# EAGLE library part MX25UW25645GXDI00-TR (library MX25UW25645GXDI00-TR)
NOR Flash Serial NOR 1.8V 256Mbit x8 I/O BGA-24 RWW Source: Datasheet <https://www.mouser.pl/pdfDocs/MX25UM25345G,18V,256Mb,v10.pdf>
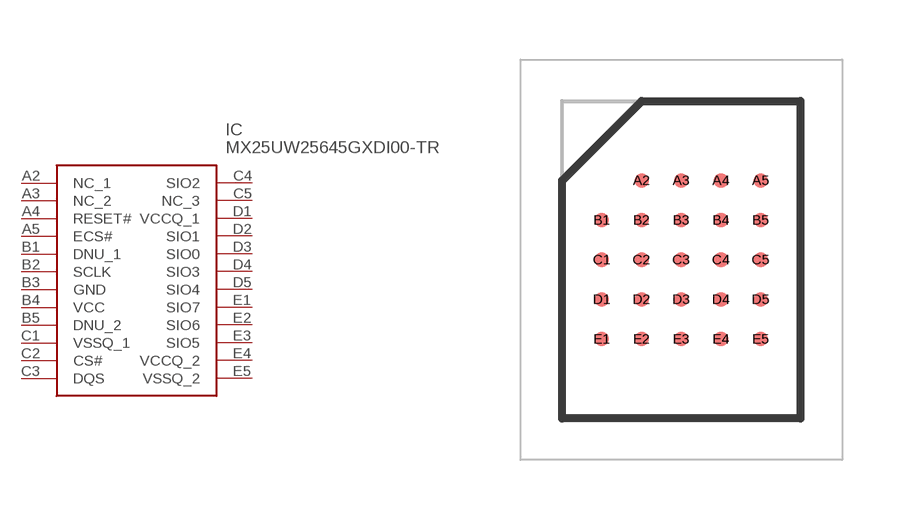
[diagram p0: symbol with the pads of BGA24C100P5X5_600X800X120; footprint BGA24C100P5X5_600X800X120]

Designator prefix IC

## MX25UW25645GXDI00-TR (Description: NOR Flash Serial NOR 1.8V 256Mbit x8 I/O BGA-24 RWW; Height: 1.2mm; Manufacturer_Name: Macronix; Manufacturer_Part_Number: MX25UW25645GXDI00-TR; Mouser_Part_Number: 95-25UW25645GXDITR; Mouser_Price-Stock: https://www.mouser.co.uk/ProductDetail/Macronix/MX25UW25645GXDI00-TR?qs=mELouGlnn3eQHWVuM4C6Wg%3D%3D)  [BGA24C100P5X5_600X800X120]
A2  NC_1
A3  NC_2
A4  RESET#
A5  ECS#
B1  DNU_1
B2  SCLK
B3  GND
B4  VCC
B5  DNU_2
C1  VSSQ_1
C2  CS#
C3  DQS
C4  SIO2
C5  NC_3
D1  VCCQ_1
D2  SIO1
D3  SIO0
D4  SIO3
D5  SIO4
E1  SIO7
E2  SIO6
E3  SIO5
E4  VCCQ_2
E5  VSSQ_2

## Footprint BGA24C100P5X5_600X800X120 (pad centres in mm)
24-Ball BGA (5x5 ball array)
smd 0.37 x 0.37: A2 -1,2; A3 0,2; A4 1,2; A5 2,2; B1 -2,1; B2 -1,1; B3 0,1; B4 1,1; B5 2,1; C1 -2,0; C2 -1,0; C3 0,0; C4 1,0; C5 2,0; D1 -2,-1; D2 -1,-1; D3 0,-1; D4 1,-1; D5 2,-1; E1 -2,-2; E2 -1,-2; E3 0,-2; E4 1,-2; E5 2,-2